# Altium footprint library lm2587_inductor.PcbLib: 1 footprints
Each footprint in its own frame and in the unit in brackets; x right, y up, seen from the top. Pads: shape width x height; smd on the part's side, far side on the other; paste and mask are expansions set on the pad; w line width, h text height; cw(c..) or ccw(c..) is an arc to the next point about the centre after c.
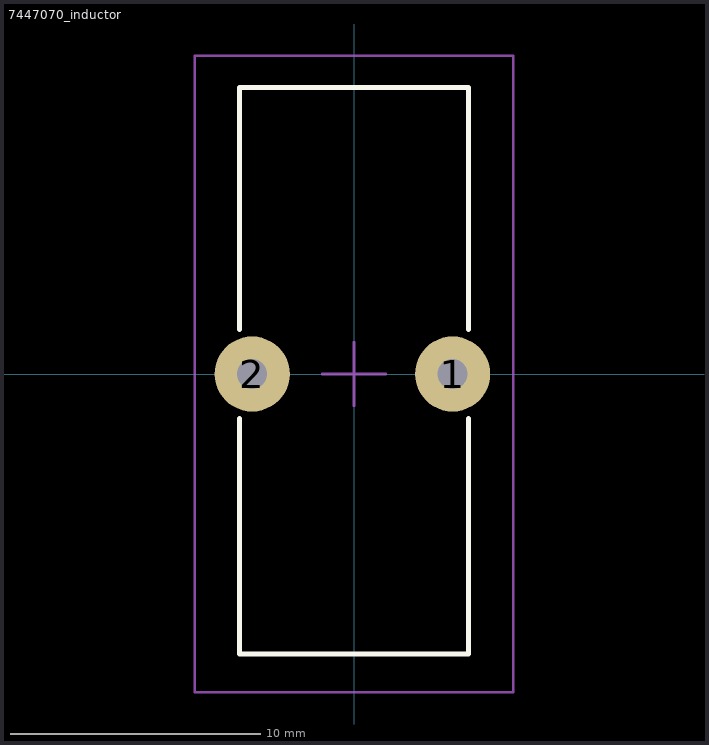
[diagram p0: the footprint, top view; thin cyan lines are the x and y axes]

## 7447070_inductor [mm] "0.984\" Dia x 0.433\" W (25.00mm x 11.00mm)"
pads (2):
  round 3 hole 1.2: 1(3.937,0) 2(-4.064,0)
Top Overlay:
  lines w0.2: -4.572,-1.778 -4.572,-11.176 4.572,-11.176 4.572,-1.778 ; -4.572,1.778 -4.572,11.43 4.572,11.43 4.572,1.778
Mechanical 15:
  lines w0.1: -1.27,0 1.27,0 ; 0,-1.27 0,1.27 ; -6.35,-12.7 6.35,-12.7 6.35,12.7 -6.35,12.7 -6.35,-12.7
3D body "7447070_Download_STP_7447070_rev1.stp": height 23.21, standoff -13.69, extent -4.499,-11.209 4.499,11.209